# Altium footprint library WL-SMDC.PcbLib: 1 footprints
Each footprint in its own frame and in the unit in brackets; x right, y up, seen from the top. Pads: shape width x height; smd on the part's side, far side on the other; paste and mask are expansions set on the pad; w line width, h text height; cw(c..) or ccw(c..) is an arc to the next point about the centre after c.
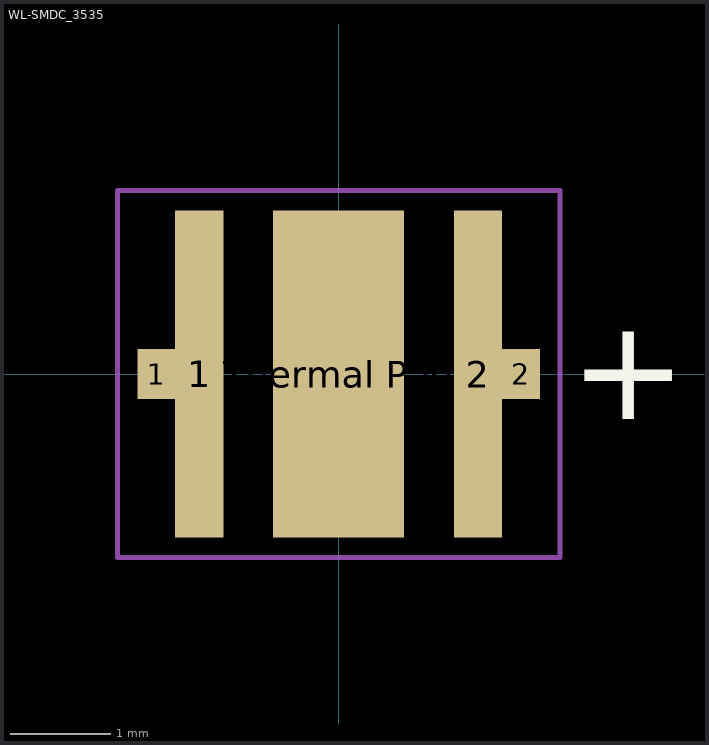
[diagram p0: the footprint, top view; thin cyan lines are the x and y axes]

## WL-SMDC_3535 [mm] "SMD Mono-color Ceramic LED Waterclear, body 3.4x3.4mm, 2-leads"
height 2.1
pads (5):
  rect 0.375x0.5 smd: 1(-1.813,0) 2(1.813,0)
  rect 0.48x3.25 smd: 1(-1.385,0) 2(1.385,0)
  rect 1.3x3.25 smd: "Thermal Pad"(0,0)
Top Overlay:
  text "+" at 2.3,-0.45 h1.02
Top Designator:
  text ".Designator" at -3.499,-0.233 h0.7
Top Courtyard:
  lines w0.05: -0.5,0 0.5,0 ; 0,-0.5 0,0.5 ; -2.2,-1.825 -2.2,1.825 2.2,1.825 2.2,-1.825 -2.2,-1.825
3D body "150353xS75400.stp": height 2.1, standoff 0, extent -1.7,-1.7 1.7,1.7